# EAGLE library part BQ76920 (library BQ76920)
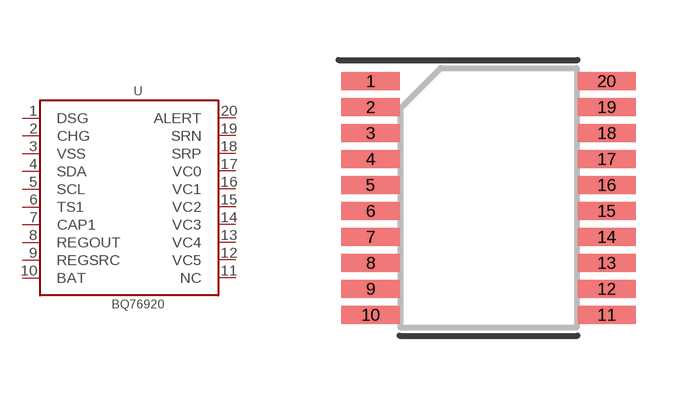
[diagram p0: symbol with the pads of TSSOP-20_4.4X6.5MM_PITCH0.65MM; footprint TSSOP-20_4.4X6.5MM_PITCH0.65MM]

Designator prefix U

## BQ76920  [TSSOP-20_4.4X6.5MM_PITCH0.65MM]
1  DSG  out
2  CHG  out
3  VSS  pas
4  SDA
5  SCL  in
6  TS1  in
7  CAP1  out
8  REGOUT
9  REGSRC  in
10  BAT  pas
11  NC  nc
12  VC5  in
13  VC4  in
14  VC3  in
15  VC2  in
16  VC1  in
17  VC0  in
18  SRP  in
19  SRN  in
20  ALERT

## Footprint TSSOP-20_4.4X6.5MM_PITCH0.65MM (pad centres in mm)
"20-Lead Plastic Thin Shrink Small Outline (ST)-4.4 mm Body [TSSOP] (see Microchip Packaging Specification 00000049BS.pdf)"
smd 1.45 x 0.45: 1 -2.95,2.925; 2 -2.95,2.275; 3 -2.95,1.625; 4 -2.95,0.975; 5 -2.95,0.325; 6 -2.95,-0.325; 7 -2.95,-0.975; 8 -2.95,-1.625; 9 -2.95,-2.275; 10 -2.95,-2.925; 11 2.95,-2.925; 12 2.95,-2.275; 13 2.95,-1.625; 14 2.95,-0.975; 15 2.95,-0.325; 16 2.95,0.325; 17 2.95,0.975; 18 2.95,1.625; 19 2.95,2.275; 20 2.95,2.925